# Altium schematic symbol library SN74LV11AD.SCHLIB: 1 symbol
Pins are listed as number, name and electrical type; pins without a type are passive.

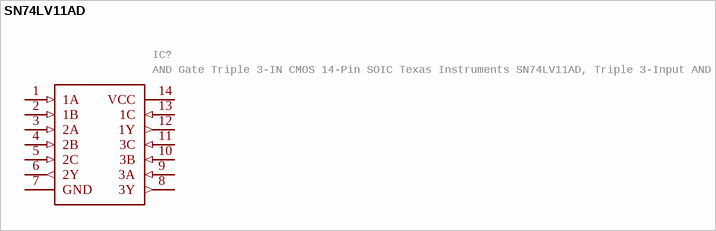
[diagram p0: symbol SN74LV11AD]

## SN74LV11AD
designator IC?, comment AND Gate Triple 3-IN CMOS 14-Pin SOIC Texas Instruments SN74LV11AD, Triple 3-Input AND Logic Gate, 2  5.5 V, 14-Pin SOIC   Source:  Datasheet
GateName_1: G$1; SymbolName_1: SN74LV11AD; LibraryName: SN74LV11AD; DeviceSetName: SN74LV11AD; Package: SOIC127P600X175-14N; Manufacturer_Name: Texas Instruments; Manufacturer_Part_Number: SN74LV11AD; Arrow_Part_Number: SN74LV11AD; Arrow_Price-Stock: https://www.arrow.com/en/products/sn74lv11ad/texas-instruments; Mouser_Part_Number: 595-SN74LV11AD; Mouser_Price-Stock: https://www.mouser.co.uk/ProductDetail/Texas-Instruments/SN74LV11AD?qs=j01uVdFEFjF0ZgtTmp3b8A%3D%3D; Description: AND Gate Triple 3-IN CMOS 14-Pin SOIC Texas Instruments SN74LV11AD, Triple 3-Input AND Logic Gate, 2  5.5 V, 14-Pin SOIC; Height: 1.75mm
footprint SOIC127P600X175-14N
pins: 1 1A (in), 2 1B (in), 3 2A (in), 4 2B (in), 5 2C (in), 6 2Y (out), 7 GND (power), 8 3Y (out), 9 3A (in), 10 3B (in), 11 3C (in), 12 1Y (out), 13 1C (in), 14 VCC (power)